# EAGLE library part SN74CBTLV3253 (library CNTRL_BOARD)
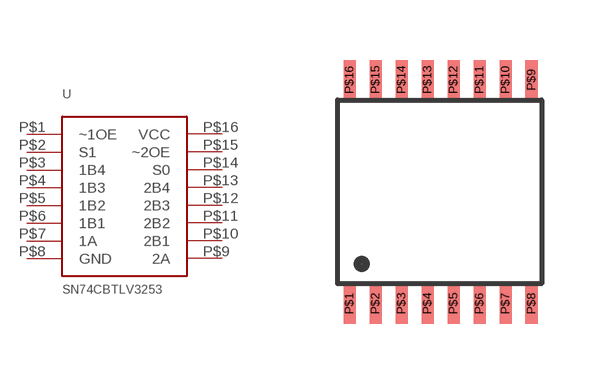
[diagram p3: symbol with the pads of SOIC16R; footprint SOIC16R]

Designator prefix U

## SN74CBTLV3253  [SOIC16R]
P$1  ~1OE
P$2  S1
P$3  1B4
P$4  1B3
P$5  1B2
P$6  1B1
P$7  1A
P$8  GND
P$9  2A
P$10  2B1
P$11  2B2
P$12  2B3
P$13  2B4
P$14  S0
P$15  ~2OE
P$16  VCC

## Footprint SOIC16R (pad centres in mm)
16-Lead SOIC (R) Package Source: http://www.analog.com/static/imported-files/data_sheets/AD745.pdf
smd 0.3 x 1: P$1 0,0; P$2 0.65,0; P$3 1.3,0; P$4 1.95,0; P$5 2.6,0; P$6 3.25,0; P$7 3.9,0; P$8 4.55,0; P$9 4.55,5.6; P$10 3.9,5.6; P$11 3.25,5.6; P$12 2.6,5.6; P$13 1.95,5.6; P$14 1.3,5.6; P$15 0.65,5.6; P$16 0,5.6